# Altium footprint library U1881.PcbLib: 1 footprints
Each footprint in its own frame and in the unit in brackets; x right, y up, seen from the top. Pads: shape width x height; smd on the part's side, far side on the other; paste and mask are expansions set on the pad; w line width, h text height; cw(c..) or ccw(c..) is an arc to the next point about the centre after c.
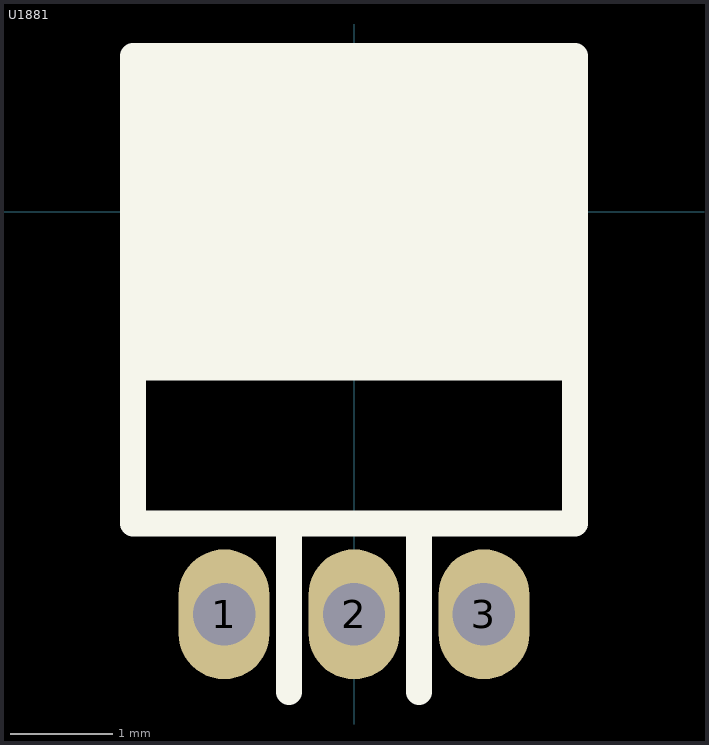
[diagram p0: the footprint, top view; thin cyan lines are the x and y axes]

## U1881 [mil]
pads (3):
  oval 35x50 hole 24: 1(-50,-155) 2(0,-155) 3(50,-155)
Top Overlay:
  rectangle: -85,-65 85,60
  lines w10: -25,-185 -25,-120 ; 25,-185 25,-120 ; -85,-120 85,-120 85,60 -85,60 -85,-120
3D body "U1881.STEP": height 81.5, standoff -108.73, extent -84.54,-162.56 84.54,62.99